# Altium schematic symbol library SCH - IC-Watchdog - TPS3106.SchLib: 1 symbol
Pins are listed as number, name and electrical type; pins without a type are passive.

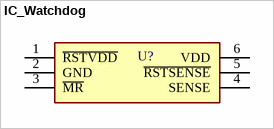
[diagram p0: symbol IC_Watchdog]

## IC_Watchdog
designator U?
pins: 1 ~{RSTVDD}, 2 GND, 3 ~{MR}, 4 SENSE, 5 ~{RSTSENSE}, 6 VDD